# Altium footprint library con-amp-mt6.PCBLIB: 12 footprints
Each footprint in its own frame and in the unit in brackets; x right, y up, seen from the top. Pads: shape width x height; smd on the part's side, far side on the other; paste and mask are expansions set on the pad; w line width, h text height; cw(c..) or ccw(c..) is an arc to the next point about the centre after c.
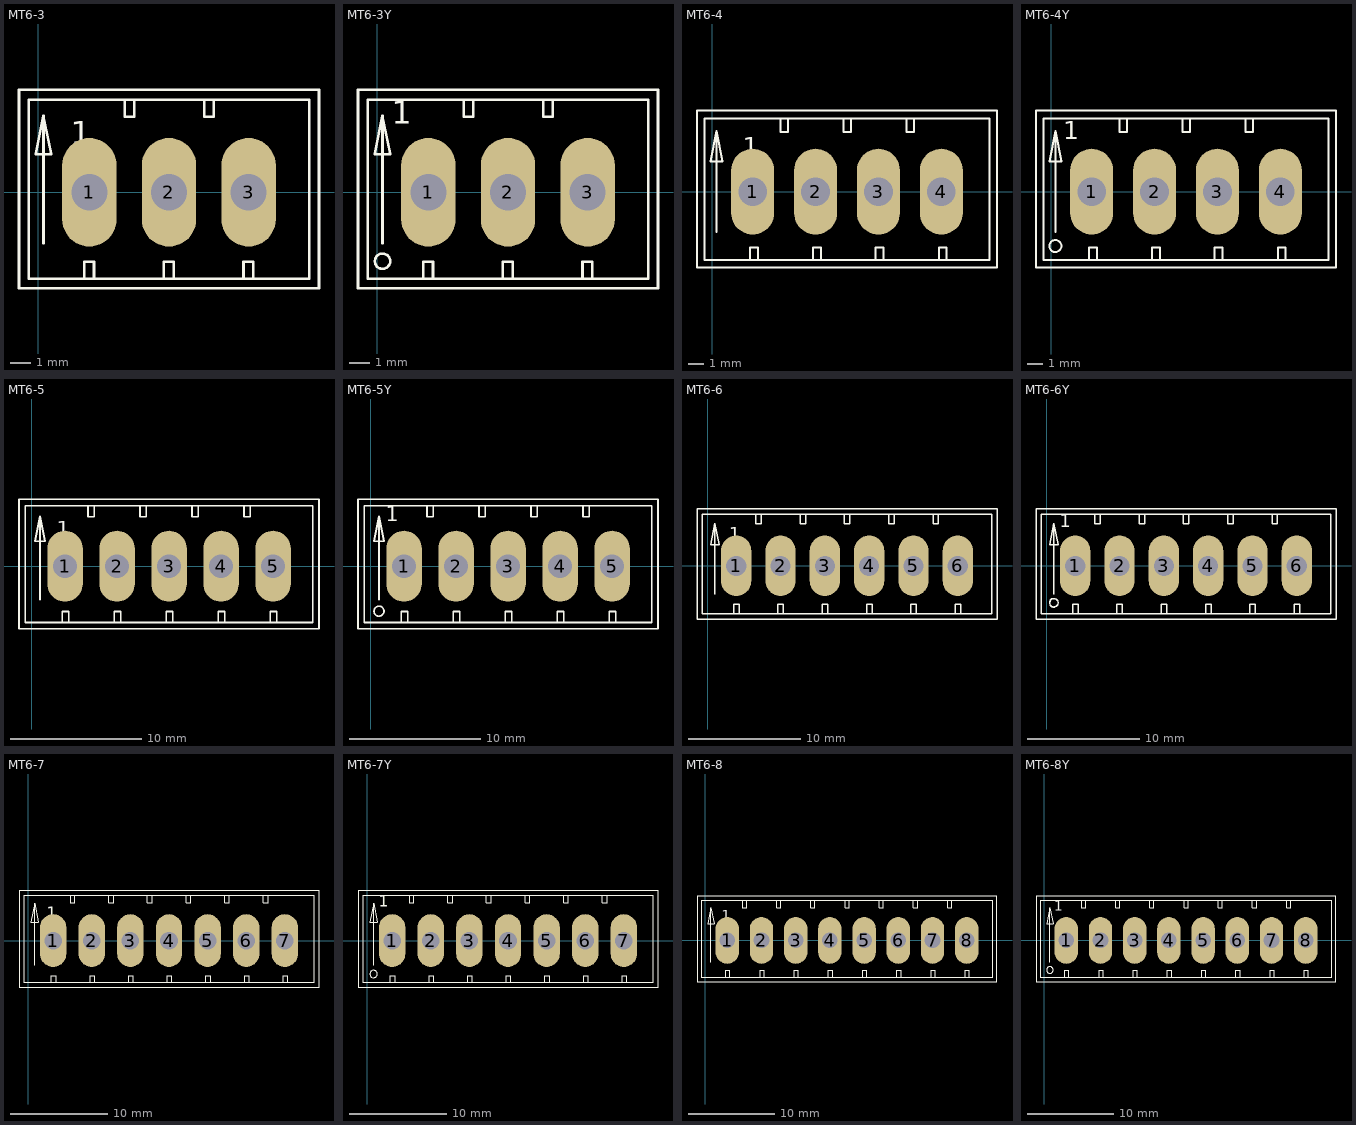
[diagram p0: the footprints below, top view; thin cyan lines are the x and y axes]

## MT6-3 [mil]
pads (3):
  oval 106.5x213 hole 71: 1(100,0) 2(256,0) 3(412,0)
Top Overlay:
  lines w5: 10,-100 10,150 ; 10,150 -5,75 25,75 10,150 ; 90,-169 -19,-169 -19,181 169,181 ; 90,-169 90,-136 109,-136 109,-169 ; 90,-169 109,-169 ; 109,-169 246,-169 ; 169,181 169,148 188,148 188,181 ; 169,181 188,181 ; 188,181 325,181 ; 246,-169 246,-136 265,-136 265,-169 ; 246,-169 265,-169 ; 265,-169 402,-169 ; 325,181 325,148 344,148 344,181 ; 325,181 344,181 ; 344,181 531,181 531,-169 421,-169 ; 402,-169 402,-136 421,-136 421,-169 ; 402,-169 421,-169 ; -38,-188 -38,201 550,201 550,-188 -38,-188
  text "1" at 63,79 h77.5
Mechanical 16:
  lines w5: 75,-25 75,25 ; 75,-25 125,-25 ; 75,-25 125,25 ; 75,25 125,25 ; 75,25 125,-25 ; 125,-25 125,25 ; 231,-25 231,25 ; 231,-25 281,-25 ; 231,-25 281,25 ; 231,25 281,25 ; 231,25 281,-25 ; 281,-25 281,25 ; 387,-25 387,25 ; 387,-25 437,-25 ; 387,-25 437,25 ; 387,25 437,25 ; 387,25 437,-25 ; 437,-25 437,25

## MT6-3Y [mil]
pads (3):
  oval 106.5x213 hole 71: 1(100,0) 2(256,0) 3(412,0)
Top Overlay:
  circle w5: c10,-135 r15
  lines w5: 10,-100 10,150 ; 10,150 -5,75 25,75 10,150 ; 90,-169 -19,-169 -19,181 169,181 ; 90,-169 90,-136 109,-136 109,-169 ; 90,-169 109,-169 ; 109,-169 246,-169 ; 169,181 169,148 188,148 188,181 ; 169,181 188,181 ; 188,181 325,181 ; 246,-169 246,-136 265,-136 265,-169 ; 246,-169 265,-169 ; 265,-169 402,-169 ; 325,181 325,148 344,148 344,181 ; 325,181 344,181 ; 344,181 531,181 531,-169 421,-169 ; 402,-169 402,-136 421,-136 421,-169 ; 402,-169 421,-169 ; -38,-188 -38,201 550,201 550,-188 -38,-188
  text "1" at 28,119 h77.5
Mechanical 16:
  lines w5: 75,-25 75,25 ; 75,-25 125,-25 ; 75,-25 125,25 ; 75,25 125,25 ; 75,25 125,-25 ; 125,-25 125,25 ; 231,-25 231,25 ; 231,-25 281,-25 ; 231,-25 281,25 ; 231,25 281,25 ; 231,25 281,-25 ; 281,-25 281,25 ; 387,-25 387,25 ; 387,-25 437,-25 ; 387,-25 437,25 ; 387,25 437,25 ; 387,25 437,-25 ; 437,-25 437,25

## MT6-4 [mil]
pads (4):
  oval 106.5x213 hole 71: 1(100,0) 2(256,0) 3(412,0) 4(568,0)
Top Overlay:
  lines w5: 10,-100 10,150 ; 10,150 -5,75 25,75 10,150 ; 94,-169 94,-139 113,-139 113,-169 ; 94,-169 113,-169 ; 94,-169 -19,-169 -19,181 169,181 ; 113,-169 250,-169 ; 169,181 169,148 188,148 188,181 ; 169,181 188,181 ; 188,181 325,181 ; 250,-169 250,-139 269,-139 269,-169 ; 250,-169 269,-169 ; 269,-169 405,-169 ; 325,181 325,148 344,148 344,181 ; 325,181 344,181 ; 344,181 481,181 ; 405,-169 405,-139 425,-139 425,-169 ; 405,-169 425,-169 ; 425,-169 562,-169 ; 481,181 500,181 ; 481,181 481,148 500,148 500,181 ; 500,181 687,181 687,-169 581,-169 ; 562,-169 562,-139 581,-139 581,-169 ; 562,-169 581,-169 ; -38,-188 -38,201 706,201 706,-188 -38,-188
  text "1" at 75,75 h77.5
Mechanical 16:
  lines w5: 75,-25 75,25 ; 75,-25 125,-25 ; 75,-25 125,25 ; 75,25 125,25 ; 75,25 125,-25 ; 125,-25 125,25 ; 231,-25 231,25 ; 231,-25 281,-25 ; 231,-25 281,25 ; 231,25 281,25 ; 231,25 281,-25 ; 281,-25 281,25 ; 387,-25 387,25 ; 387,-25 437,-25 ; 387,-25 437,25 ; 387,25 437,25 ; 387,25 437,-25 ; 437,-25 437,25 ; 543,-25 543,25 ; 543,-25 593,-25 ; 543,-25 593,25 ; 543,25 593,25 ; 543,25 593,-25 ; 593,-25 593,25

## MT6-4Y [mil]
pads (4):
  oval 106.5x213 hole 71: 1(100,0) 2(256,0) 3(412,0) 4(568,0)
Top Overlay:
  circle w5: c10,-135 r15
  lines w5: 10,-100 10,150 ; 10,150 -5,75 25,75 10,150 ; 94,-169 94,-139 113,-139 113,-169 ; 94,-169 113,-169 ; 94,-169 -19,-169 -19,181 169,181 ; 113,-169 250,-169 ; 169,181 169,148 188,148 188,181 ; 169,181 188,181 ; 188,181 325,181 ; 250,-169 250,-139 269,-139 269,-169 ; 250,-169 269,-169 ; 269,-169 405,-169 ; 325,181 325,148 344,148 344,181 ; 325,181 344,181 ; 344,181 481,181 ; 405,-169 405,-139 425,-139 425,-169 ; 405,-169 425,-169 ; 425,-169 562,-169 ; 481,181 500,181 ; 481,181 481,148 500,148 500,181 ; 500,181 687,181 687,-169 581,-169 ; 562,-169 562,-139 581,-139 581,-169 ; 562,-169 581,-169 ; -38,-188 -38,201 706,201 706,-188 -38,-188
  text "1" at 30,115 h77.5
Mechanical 16:
  lines w5: 75,-25 75,25 ; 75,-25 125,-25 ; 75,-25 125,25 ; 75,25 125,25 ; 75,25 125,-25 ; 125,-25 125,25 ; 231,-25 231,25 ; 231,-25 281,-25 ; 231,-25 281,25 ; 231,25 281,25 ; 231,25 281,-25 ; 281,-25 281,25 ; 387,-25 387,25 ; 387,-25 437,-25 ; 387,-25 437,25 ; 387,25 437,25 ; 387,25 437,-25 ; 437,-25 437,25 ; 543,-25 543,25 ; 543,-25 593,-25 ; 543,-25 593,25 ; 543,25 593,25 ; 543,25 593,-25 ; 593,-25 593,25

## MT6-5 [mil]
pads (5):
  oval 106.5x213 hole 71: 1(100,0) 2(256,0) 3(412,0) 4(568,0) 5(724,0)
Top Overlay:
  lines w5: 25,-100 25,150 ; 25,150 10,75 40,75 25,150 ; 92,-169 -19,-169 -19,181 169,181 ; 92,-169 92,-136 111,-136 111,-169 ; 92,-169 111,-169 ; 111,-169 248,-169 ; 169,181 169,148 188,148 188,181 ; 169,181 188,181 ; 188,181 325,181 ; 248,-169 248,-136 267,-136 267,-169 ; 248,-169 267,-169 ; 267,-169 404,-169 ; 325,181 325,148 344,148 344,181 ; 325,181 344,181 ; 344,181 481,181 ; 404,-169 404,-136 423,-136 423,-169 ; 404,-169 423,-169 ; 423,-169 560,-169 ; 481,181 500,181 ; 481,181 481,148 500,148 500,181 ; 500,181 637,181 ; 560,-169 560,-136 579,-136 579,-169 ; 560,-169 579,-169 ; 579,-169 716,-169 ; 637,181 656,181 ; 637,181 637,148 656,148 656,181 ; 656,181 843,181 843,-169 735,-169 ; 716,-169 716,-136 735,-136 735,-169 ; 716,-169 735,-169 ; -38,-188 -38,201 862,201 862,-188 -38,-188
  text "1" at 75,75 h77.5
Mechanical 16:
  lines w5: 75,-25 75,25 ; 75,-25 125,-25 ; 75,-25 125,25 ; 75,25 125,25 ; 75,25 125,-25 ; 125,-25 125,25 ; 231,-25 231,25 ; 231,-25 281,-25 ; 231,-25 281,25 ; 231,25 281,25 ; 231,25 281,-25 ; 281,-25 281,25 ; 387,-25 387,25 ; 387,-25 437,-25 ; 387,-25 437,25 ; 387,25 437,25 ; 387,25 437,-25 ; 437,-25 437,25 ; 543,-25 543,25 ; 543,-25 593,-25 ; 543,-25 593,25 ; 543,25 593,25 ; 543,25 593,-25 ; 593,-25 593,25 ; 699,-25 699,25 ; 699,-25 749,-25 ; 699,-25 749,25 ; 699,25 749,25 ; 699,25 749,-25 ; 749,-25 749,25

## MT6-5Y [mil]
pads (5):
  oval 106.5x213 hole 71: 1(100,0) 2(256,0) 3(412,0) 4(568,0) 5(724,0)
Top Overlay:
  circle w5: c25,-135 r15
  lines w5: 25,-100 25,150 ; 25,150 10,75 40,75 25,150 ; 92,-169 -19,-169 -19,181 169,181 ; 92,-169 92,-136 111,-136 111,-169 ; 92,-169 111,-169 ; 111,-169 248,-169 ; 169,181 169,148 188,148 188,181 ; 169,181 188,181 ; 188,181 325,181 ; 248,-169 248,-136 267,-136 267,-169 ; 248,-169 267,-169 ; 267,-169 404,-169 ; 325,181 325,148 344,148 344,181 ; 325,181 344,181 ; 344,181 481,181 ; 404,-169 404,-136 423,-136 423,-169 ; 404,-169 423,-169 ; 423,-169 560,-169 ; 481,181 500,181 ; 481,181 481,148 500,148 500,181 ; 500,181 637,181 ; 560,-169 560,-136 579,-136 579,-169 ; 560,-169 579,-169 ; 579,-169 716,-169 ; 637,181 656,181 ; 637,181 637,148 656,148 656,181 ; 656,181 843,181 843,-169 735,-169 ; 716,-169 716,-136 735,-136 735,-169 ; 716,-169 735,-169 ; -38,-188 -38,201 862,201 862,-188 -38,-188
  text "1" at 45,120 h77.5
Mechanical 16:
  lines w5: 75,-25 75,25 ; 75,-25 125,-25 ; 75,-25 125,25 ; 75,25 125,25 ; 75,25 125,-25 ; 125,-25 125,25 ; 231,-25 231,25 ; 231,-25 281,-25 ; 231,-25 281,25 ; 231,25 281,25 ; 231,25 281,-25 ; 281,-25 281,25 ; 387,-25 387,25 ; 387,-25 437,-25 ; 387,-25 437,25 ; 387,25 437,25 ; 387,25 437,-25 ; 437,-25 437,25 ; 543,-25 543,25 ; 543,-25 593,-25 ; 543,-25 593,25 ; 543,25 593,25 ; 543,25 593,-25 ; 593,-25 593,25 ; 699,-25 699,25 ; 699,-25 749,-25 ; 699,-25 749,25 ; 699,25 749,25 ; 699,25 749,-25 ; 749,-25 749,25

## MT6-6 [mil]
pads (6):
  oval 106.5x213 hole 71: 1(100,0) 2(256,0) 3(412,0) 4(568,0) 5(724,0) 6(880,0)
Top Overlay:
  lines w5: 25,-100 25,150 ; 25,150 10,75 40,75 25,150 ; 91,-169 -19,-169 -19,181 169,181 ; 91,-169 91,-136 110,-136 110,-169 ; 91,-169 110,-169 ; 110,-169 247,-169 ; 169,181 169,148 188,148 188,181 ; 169,181 188,181 ; 188,181 325,181 ; 247,-169 247,-136 266,-136 266,-169 ; 247,-169 266,-169 ; 266,-169 403,-169 ; 325,181 325,148 344,148 344,181 ; 325,181 344,181 ; 344,181 481,181 ; 403,-169 403,-136 422,-136 422,-169 ; 403,-169 422,-169 ; 422,-169 559,-169 ; 481,181 500,181 ; 481,181 481,148 500,148 500,181 ; 500,181 637,181 ; 559,-169 559,-136 578,-136 578,-169 ; 559,-169 578,-169 ; 578,-169 715,-169 ; 637,181 656,181 ; 637,181 637,148 656,148 656,181 ; 656,181 793,181 ; 715,-169 715,-136 734,-136 734,-169 ; 715,-169 734,-169 ; 734,-169 871,-169 ; 793,181 812,181 ; 793,181 793,148 812,148 812,181 ; 812,181 999,181 999,-169 890,-169 ; 871,-169 871,-136 890,-136 890,-169 ; 871,-169 890,-169 ; -38,-188 -38,201 1018,201 1018,-188 -38,-188
  text "1" at 75,75 h77.5
Mechanical 16:
  lines w5: 75,-25 75,25 ; 75,-25 125,-25 ; 75,-25 125,25 ; 75,25 125,25 ; 75,25 125,-25 ; 125,-25 125,25 ; 231,-25 231,25 ; 231,-25 281,-25 ; 231,-25 281,25 ; 231,25 281,25 ; 231,25 281,-25 ; 281,-25 281,25 ; 387,-25 387,25 ; 387,-25 437,-25 ; 387,-25 437,25 ; 387,25 437,25 ; 387,25 437,-25 ; 437,-25 437,25 ; 543,-25 543,25 ; 543,-25 593,-25 ; 543,-25 593,25 ; 543,25 593,25 ; 543,25 593,-25 ; 593,-25 593,25 ; 699,-25 699,25 ; 699,-25 749,-25 ; 699,-25 749,25 ; 699,25 749,25 ; 699,25 749,-25 ; 749,-25 749,25 ; 855,-25 855,25 ; 855,-25 905,-25 ; 855,-25 905,25 ; 855,25 905,25 ; 855,25 905,-25 ; 905,-25 905,25

## MT6-6Y [mil]
pads (6):
  oval 106.5x213 hole 71: 1(100,0) 2(256,0) 3(412,0) 4(568,0) 5(724,0) 6(880,0)
Top Overlay:
  circle w5: c25,-130 r15
  lines w5: 25,-100 25,150 ; 25,150 10,75 40,75 25,150 ; 91,-169 -19,-169 -19,181 169,181 ; 91,-169 91,-136 110,-136 110,-169 ; 91,-169 110,-169 ; 110,-169 247,-169 ; 169,181 169,148 188,148 188,181 ; 169,181 188,181 ; 188,181 325,181 ; 247,-169 247,-136 266,-136 266,-169 ; 247,-169 266,-169 ; 266,-169 403,-169 ; 325,181 325,148 344,148 344,181 ; 325,181 344,181 ; 344,181 481,181 ; 403,-169 403,-136 422,-136 422,-169 ; 403,-169 422,-169 ; 422,-169 559,-169 ; 481,181 500,181 ; 481,181 481,148 500,148 500,181 ; 500,181 637,181 ; 559,-169 559,-136 578,-136 578,-169 ; 559,-169 578,-169 ; 578,-169 715,-169 ; 637,181 656,181 ; 637,181 637,148 656,148 656,181 ; 656,181 793,181 ; 715,-169 715,-136 734,-136 734,-169 ; 715,-169 734,-169 ; 734,-169 871,-169 ; 793,181 812,181 ; 793,181 793,148 812,148 812,181 ; 812,181 999,181 999,-169 890,-169 ; 871,-169 871,-136 890,-136 890,-169 ; 871,-169 890,-169 ; -38,-188 -38,201 1018,201 1018,-188 -38,-188
  text "1" at 45,120 h77.5
Mechanical 16:
  lines w5: 75,-25 75,25 ; 75,-25 125,-25 ; 75,-25 125,25 ; 75,25 125,25 ; 75,25 125,-25 ; 125,-25 125,25 ; 231,-25 231,25 ; 231,-25 281,-25 ; 231,-25 281,25 ; 231,25 281,25 ; 231,25 281,-25 ; 281,-25 281,25 ; 387,-25 387,25 ; 387,-25 437,-25 ; 387,-25 437,25 ; 387,25 437,25 ; 387,25 437,-25 ; 437,-25 437,25 ; 543,-25 543,25 ; 543,-25 593,-25 ; 543,-25 593,25 ; 543,25 593,25 ; 543,25 593,-25 ; 593,-25 593,25 ; 699,-25 699,25 ; 699,-25 749,-25 ; 699,-25 749,25 ; 699,25 749,25 ; 699,25 749,-25 ; 749,-25 749,25 ; 855,-25 855,25 ; 855,-25 905,-25 ; 855,-25 905,25 ; 855,25 905,25 ; 855,25 905,-25 ; 905,-25 905,25

## MT6-7 [mil]
pads (7):
  oval 106.5x213 hole 71: 1(100,0) 2(256,0) 3(412,0) 4(568,0) 5(724,0) 6(880,0) 7(1036,0)
Top Overlay:
  lines w5: 25,-100 25,150 ; 25,150 10,75 40,75 25,150 ; 91,-169 -19,-169 -19,181 169,181 ; 91,-169 91,-141 110,-141 110,-169 ; 91,-169 110,-169 ; 110,-169 247,-169 ; 169,181 169,153 188,153 188,181 ; 169,181 188,181 ; 188,181 325,181 ; 247,-169 247,-141 266,-141 266,-169 ; 247,-169 266,-169 ; 266,-169 403,-169 ; 325,181 325,153 344,153 344,181 ; 325,181 344,181 ; 344,181 481,181 ; 403,-169 403,-141 422,-141 422,-169 ; 403,-169 422,-169 ; 422,-169 559,-169 ; 481,181 500,181 ; 481,181 481,153 500,153 500,181 ; 500,181 637,181 ; 559,-169 559,-141 578,-141 578,-169 ; 559,-169 578,-169 ; 578,-169 715,-169 ; 637,181 656,181 ; 637,181 637,153 656,153 656,181 ; 656,181 793,181 ; 715,-169 715,-141 734,-141 734,-169 ; 715,-169 734,-169 ; 734,-169 871,-169 ; 793,181 812,181 ; 793,181 793,153 812,153 812,181 ; 812,181 949,181 ; 871,-169 871,-141 890,-141 890,-169 ; 871,-169 890,-169 ; 890,-169 1027,-169 ; 949,181 968,181 ; 949,181 949,153 968,153 968,181 ; 968,181 1155,181 1155,-169 1046,-169 ; 1027,-169 1027,-141 1046,-141 1046,-169 ; 1027,-169 1046,-169 ; -38,-188 -38,201 1174,201 1174,-188 -38,-188
  text "1" at 75,75 h77.5
Mechanical 16:
  lines w5: 75,-25 75,25 ; 75,-25 125,-25 ; 75,-25 125,25 ; 75,25 125,25 ; 75,25 125,-25 ; 125,-25 125,25 ; 231,-25 231,25 ; 231,-25 281,-25 ; 231,-25 281,25 ; 231,25 281,25 ; 231,25 281,-25 ; 281,-25 281,25 ; 387,-25 387,25 ; 387,-25 437,-25 ; 387,-25 437,25 ; 387,25 437,25 ; 387,25 437,-25 ; 437,-25 437,25 ; 543,-25 543,25 ; 543,-25 593,-25 ; 543,-25 593,25 ; 543,25 593,25 ; 543,25 593,-25 ; 593,-25 593,25 ; 699,-25 699,25 ; 699,-25 749,-25 ; 699,-25 749,25 ; 699,25 749,25 ; 699,25 749,-25 ; 749,-25 749,25 ; 855,-25 855,25 ; 855,-25 905,-25 ; 855,-25 905,25 ; 855,25 905,25 ; 855,25 905,-25 ; 905,-25 905,25 ; 1011,-25 1011,25 ; 1011,-25 1061,-25 ; 1011,-25 1061,25 ; 1011,25 1061,25 ; 1011,25 1061,-25 ; 1061,-25 1061,25

## MT6-7Y [mil]
pads (7):
  oval 106.5x213 hole 71: 1(100,0) 2(256,0) 3(412,0) 4(568,0) 5(724,0) 6(880,0) 7(1036,0)
Top Overlay:
  circle w5: c25,-135 r15
  lines w5: 25,-100 25,150 ; 25,150 10,75 40,75 25,150 ; 91,-169 -19,-169 -19,181 169,181 ; 91,-169 91,-141 110,-141 110,-169 ; 91,-169 110,-169 ; 110,-169 247,-169 ; 169,181 169,153 188,153 188,181 ; 169,181 188,181 ; 188,181 325,181 ; 247,-169 247,-141 266,-141 266,-169 ; 247,-169 266,-169 ; 266,-169 403,-169 ; 325,181 325,153 344,153 344,181 ; 325,181 344,181 ; 344,181 481,181 ; 403,-169 403,-141 422,-141 422,-169 ; 403,-169 422,-169 ; 422,-169 559,-169 ; 481,181 500,181 ; 481,181 481,153 500,153 500,181 ; 500,181 637,181 ; 559,-169 559,-141 578,-141 578,-169 ; 559,-169 578,-169 ; 578,-169 715,-169 ; 637,181 656,181 ; 637,181 637,153 656,153 656,181 ; 656,181 793,181 ; 715,-169 715,-141 734,-141 734,-169 ; 715,-169 734,-169 ; 734,-169 871,-169 ; 793,181 812,181 ; 793,181 793,153 812,153 812,181 ; 812,181 949,181 ; 871,-169 871,-141 890,-141 890,-169 ; 871,-169 890,-169 ; 890,-169 1027,-169 ; 949,181 968,181 ; 949,181 949,153 968,153 968,181 ; 968,181 1155,181 1155,-169 1046,-169 ; 1027,-169 1027,-141 1046,-141 1046,-169 ; 1027,-169 1046,-169 ; -38,-188 -38,201 1174,201 1174,-188 -38,-188
  text "1" at 45,120 h77.5
Mechanical 16:
  lines w5: 75,-25 75,25 ; 75,-25 125,-25 ; 75,-25 125,25 ; 75,25 125,25 ; 75,25 125,-25 ; 125,-25 125,25 ; 231,-25 231,25 ; 231,-25 281,-25 ; 231,-25 281,25 ; 231,25 281,25 ; 231,25 281,-25 ; 281,-25 281,25 ; 387,-25 387,25 ; 387,-25 437,-25 ; 387,-25 437,25 ; 387,25 437,25 ; 387,25 437,-25 ; 437,-25 437,25 ; 543,-25 543,25 ; 543,-25 593,-25 ; 543,-25 593,25 ; 543,25 593,25 ; 543,25 593,-25 ; 593,-25 593,25 ; 699,-25 699,25 ; 699,-25 749,-25 ; 699,-25 749,25 ; 699,25 749,25 ; 699,25 749,-25 ; 749,-25 749,25 ; 855,-25 855,25 ; 855,-25 905,-25 ; 855,-25 905,25 ; 855,25 905,25 ; 855,25 905,-25 ; 905,-25 905,25 ; 1011,-25 1011,25 ; 1011,-25 1061,-25 ; 1011,-25 1061,25 ; 1011,25 1061,25 ; 1011,25 1061,-25 ; 1061,-25 1061,25

## MT6-8 [mil]
pads (8):
  oval 106.5x213 hole 71: 1(100,0) 2(256,0) 3(412,0) 4(568,0) 5(724,0) 6(880,0) 7(1036,0) 8(1192,0)
Top Overlay:
  lines w5: 25,-100 25,150 ; 25,150 10,75 40,75 25,150 ; 91,-169 -19,-169 -19,181 169,181 ; 91,-169 91,-136 110,-136 110,-169 ; 91,-169 110,-169 ; 110,-169 247,-169 ; 169,181 169,148 188,148 188,181 ; 169,181 188,181 ; 188,181 325,181 ; 247,-169 247,-136 266,-136 266,-169 ; 247,-169 266,-169 ; 266,-169 403,-169 ; 325,181 325,148 344,148 344,181 ; 325,181 344,181 ; 344,181 481,181 ; 403,-169 403,-136 422,-136 422,-169 ; 403,-169 422,-169 ; 422,-169 559,-169 ; 481,181 500,181 ; 481,181 481,148 500,148 500,181 ; 500,181 637,181 ; 559,-169 559,-136 578,-136 578,-169 ; 559,-169 578,-169 ; 578,-169 715,-169 ; 637,181 656,181 ; 637,181 637,148 656,148 656,181 ; 656,181 793,181 ; 715,-169 715,-136 734,-136 734,-169 ; 715,-169 734,-169 ; 734,-169 871,-169 ; 793,181 812,181 ; 793,181 793,148 812,148 812,181 ; 812,181 949,181 ; 871,-169 871,-136 890,-136 890,-169 ; 871,-169 890,-169 ; 890,-169 1027,-169 ; 949,181 968,181 ; 949,181 949,148 968,148 968,181 ; 968,181 1105,181 ; 1027,-169 1027,-136 1046,-136 1046,-169 ; 1027,-169 1046,-169 ; 1046,-169 1183,-169 ; 1105,181 1124,181 ; 1105,181 1105,148 1124,148 1124,181 ; 1124,181 1311,181 1311,-169 1202,-169 ; 1183,-169 1183,-136 1202,-136 1202,-169 ; 1183,-169 1202,-169 ; -38,-188 -38,201 1330,201 1330,-188 -38,-188
  text "1" at 75,75 h77.5
Mechanical 16:
  lines w5: 75,-25 75,25 ; 75,-25 125,-25 ; 75,-25 125,25 ; 75,25 125,25 ; 75,25 125,-25 ; 125,-25 125,25 ; 231,-25 231,25 ; 231,-25 281,-25 ; 231,-25 281,25 ; 231,25 281,25 ; 231,25 281,-25 ; 281,-25 281,25 ; 387,-25 387,25 ; 387,-25 437,-25 ; 387,-25 437,25 ; 387,25 437,25 ; 387,25 437,-25 ; 437,-25 437,25 ; 543,-25 543,25 ; 543,-25 593,-25 ; 543,-25 593,25 ; 543,25 593,25 ; 543,25 593,-25 ; 593,-25 593,25 ; 699,-25 699,25 ; 699,-25 749,-25 ; 699,-25 749,25 ; 699,25 749,25 ; 699,25 749,-25 ; 749,-25 749,25 ; 855,-25 855,25 ; 855,-25 905,-25 ; 855,-25 905,25 ; 855,25 905,25 ; 855,25 905,-25 ; 905,-25 905,25 ; 1011,-25 1011,25 ; 1011,-25 1061,-25 ; 1011,-25 1061,25 ; 1011,25 1061,25 ; 1011,25 1061,-25 ; 1061,-25 1061,25 ; 1167,-25 1167,25 ; 1167,-25 1217,-25 ; 1167,-25 1217,25 ; 1167,25 1217,25 ; 1167,25 1217,-25 ; 1217,-25 1217,25

## MT6-8Y [mil]
pads (8):
  oval 106.5x213 hole 71: 1(100,0) 2(256,0) 3(412,0) 4(568,0) 5(724,0) 6(880,0) 7(1036,0) 8(1192,0)
Top Overlay:
  circle w5: c25,-135 r15
  lines w5: 25,-100 25,150 ; 25,150 10,75 40,75 25,150 ; 91,-169 -19,-169 -19,181 169,181 ; 91,-169 91,-136 110,-136 110,-169 ; 91,-169 110,-169 ; 110,-169 247,-169 ; 169,181 169,148 188,148 188,181 ; 169,181 188,181 ; 188,181 325,181 ; 247,-169 247,-136 266,-136 266,-169 ; 247,-169 266,-169 ; 266,-169 403,-169 ; 325,181 325,148 344,148 344,181 ; 325,181 344,181 ; 344,181 481,181 ; 403,-169 403,-136 422,-136 422,-169 ; 403,-169 422,-169 ; 422,-169 559,-169 ; 481,181 500,181 ; 481,181 481,148 500,148 500,181 ; 500,181 637,181 ; 559,-169 559,-136 578,-136 578,-169 ; 559,-169 578,-169 ; 578,-169 715,-169 ; 637,181 656,181 ; 637,181 637,148 656,148 656,181 ; 656,181 793,181 ; 715,-169 715,-136 734,-136 734,-169 ; 715,-169 734,-169 ; 734,-169 871,-169 ; 793,181 812,181 ; 793,181 793,148 812,148 812,181 ; 812,181 949,181 ; 871,-169 871,-136 890,-136 890,-169 ; 871,-169 890,-169 ; 890,-169 1027,-169 ; 949,181 968,181 ; 949,181 949,148 968,148 968,181 ; 968,181 1105,181 ; 1027,-169 1027,-136 1046,-136 1046,-169 ; 1027,-169 1046,-169 ; 1046,-169 1183,-169 ; 1105,181 1124,181 ; 1105,181 1105,148 1124,148 1124,181 ; 1124,181 1311,181 1311,-169 1202,-169 ; 1183,-169 1183,-136 1202,-136 1202,-169 ; 1183,-169 1202,-169 ; -38,-188 -38,201 1330,201 1330,-188 -38,-188
  text "1" at 45,120 h77.5
Mechanical 16:
  lines w5: 75,-25 75,25 ; 75,-25 125,-25 ; 75,-25 125,25 ; 75,25 125,25 ; 75,25 125,-25 ; 125,-25 125,25 ; 231,-25 231,25 ; 231,-25 281,-25 ; 231,-25 281,25 ; 231,25 281,25 ; 231,25 281,-25 ; 281,-25 281,25 ; 387,-25 387,25 ; 387,-25 437,-25 ; 387,-25 437,25 ; 387,25 437,25 ; 387,25 437,-25 ; 437,-25 437,25 ; 543,-25 543,25 ; 543,-25 593,-25 ; 543,-25 593,25 ; 543,25 593,25 ; 543,25 593,-25 ; 593,-25 593,25 ; 699,-25 699,25 ; 699,-25 749,-25 ; 699,-25 749,25 ; 699,25 749,25 ; 699,25 749,-25 ; 749,-25 749,25 ; 855,-25 855,25 ; 855,-25 905,-25 ; 855,-25 905,25 ; 855,25 905,25 ; 855,25 905,-25 ; 905,-25 905,25 ; 1011,-25 1011,25 ; 1011,-25 1061,-25 ; 1011,-25 1061,25 ; 1011,25 1061,25 ; 1011,25 1061,-25 ; 1061,-25 1061,25 ; 1167,-25 1167,25 ; 1167,-25 1217,-25 ; 1167,-25 1217,25 ; 1167,25 1217,25 ; 1167,25 1217,-25 ; 1217,-25 1217,25